# EAGLE library part OV7670 (library ov7670)
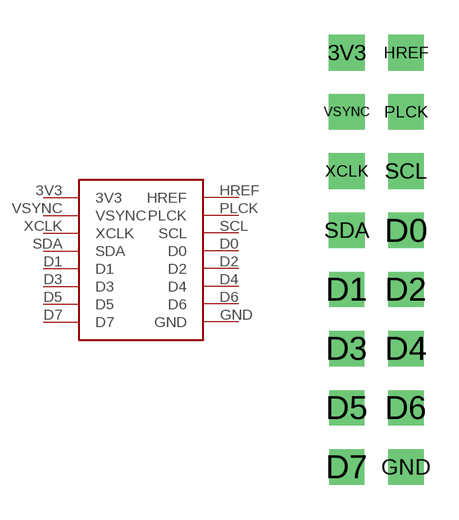
[diagram p0: symbol with the pads of OV7670; footprint OV7670]

Designator prefix -

## OV7670  [OV7670]
3V3  3V3
D0  D0
D1  D1
D2  D2
D3  D3
D4  D4
D5  D5
D6  D6
D7  D7
GND  GND
HREF  HREF
PLCK  PLCK
SCL  SCL
SDA  SDA
VSYNC  VSYNC
XCLK  XCLK

## Footprint OV7670 (pad centres in mm)
drill 1 pad 1.524 square: 3V3 -2.54,7.62; D0 0,0; HREF 0,7.62; PLCK 0,5.08; SCL 0,2.54; SDA -2.54,0; VSYNC -2.54,5.08; XCLK -2.54,2.54
drill 1 square: D1 -2.54,-2.54; D2 0,-2.54; D3 -2.54,-5.08; D4 0,-5.08; D5 -2.54,-7.62; D6 0,-7.62; D7 -2.54,-10.16; GND 0,-10.16